# Altium footprint library ATK-2014-09-12.PcbLib: 439 footprints (part 8 of 28)
Each footprint in its own frame and in the unit in brackets; x right, y up, seen from the top. Pads: shape width x height; smd on the part's side, far side on the other; paste and mask are expansions set on the pad; w line width, h text height; cw(c..) or ccw(c..) is an arc to the next point about the centre after c.
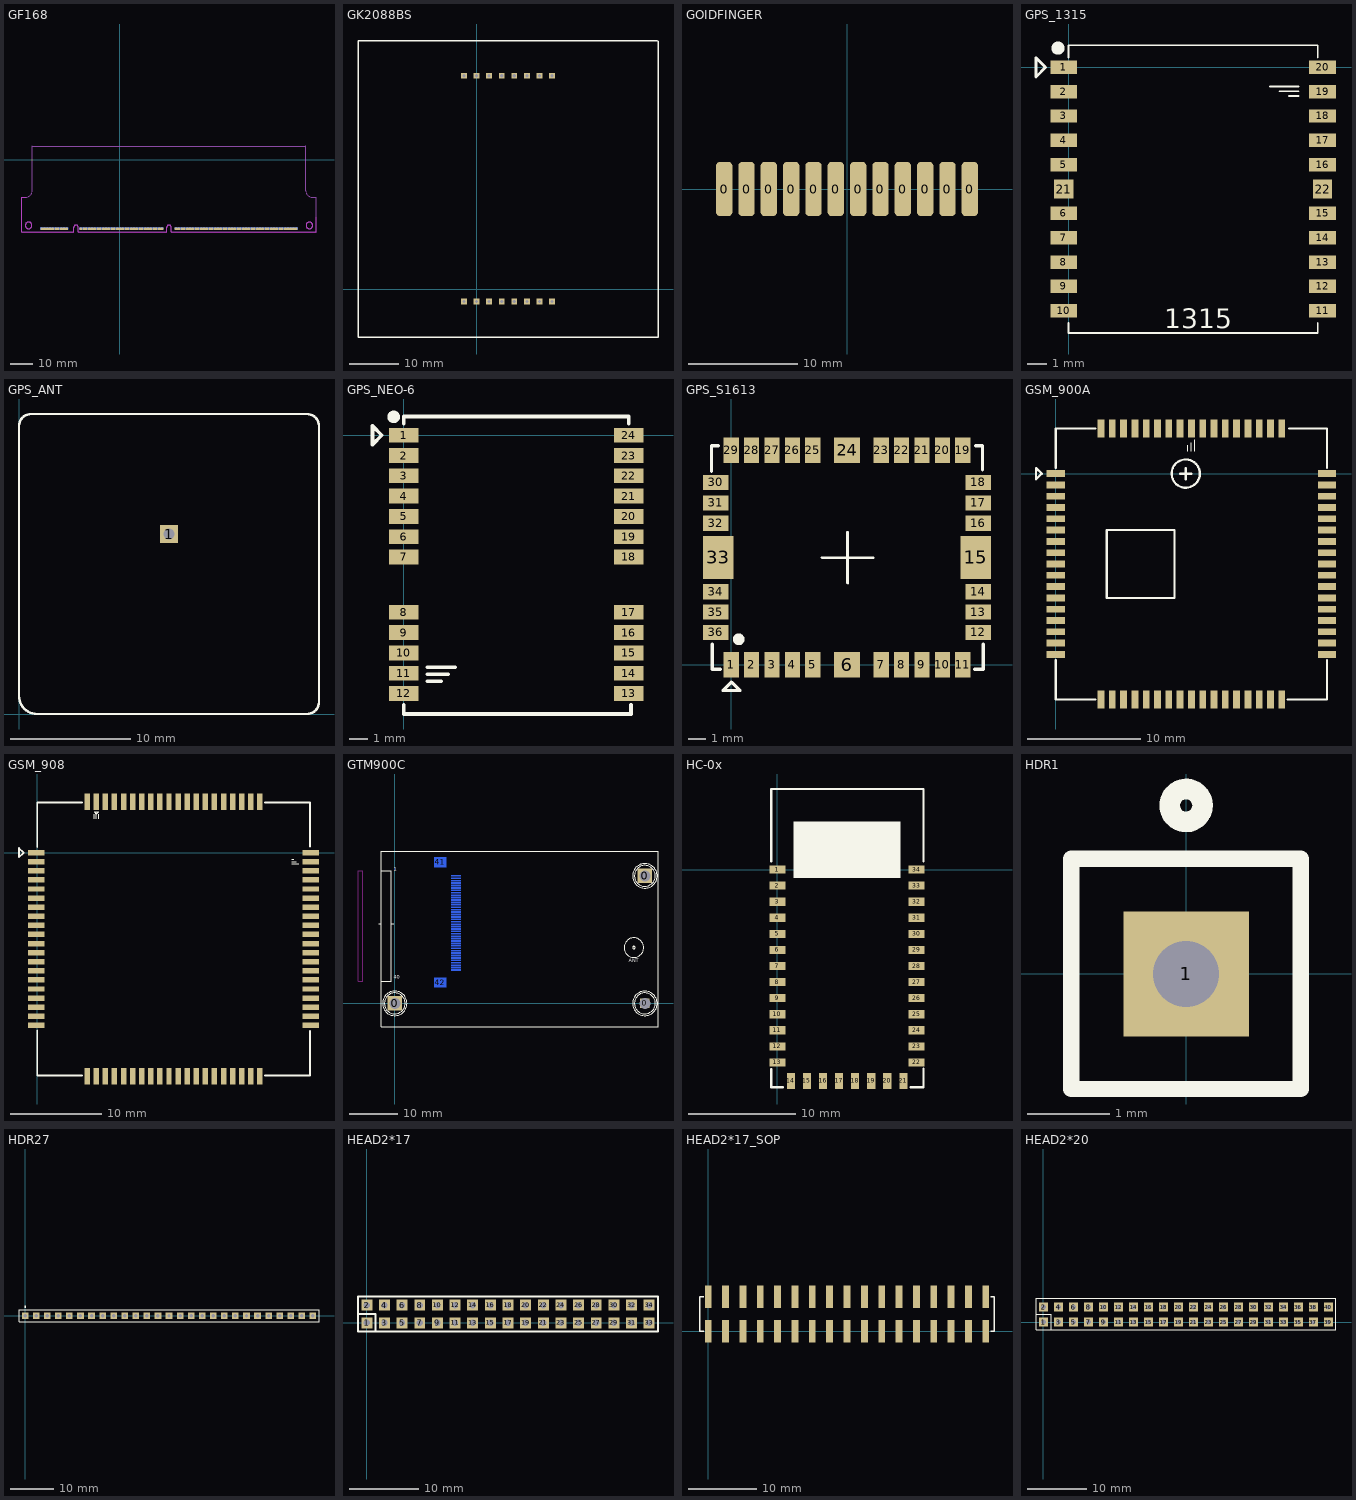
[diagram p7: the footprints below, top view; thin cyan lines are the x and y axes]

## GF168 [mm] "PORT"
height 50
pads (168):
  rect 1.2x1.2 smd: A1(-35.382,-31.242) A2(-34.112,-31.242) A3(-32.842,-31.242) A4(-31.572,-31.242) A5(-30.302,-31.242) A6(-29.032,-31.242) A7(-27.762,-31.242) A8(-26.492,-31.242) A9(-25.222,-31.242) A10(-23.952,-31.242) A11(-17.602,-31.242) A12(-16.332,-31.242) A13(-15.062,-31.242) A14(-13.792,-31.242) A15(-12.522,-31.242) A16(-11.252,-31.242) A17(-9.982,-31.242) A18(-8.712,-31.242) A19(-7.442,-31.242) A20(-6.172,-31.242) A21(-4.902,-31.242) A22(-3.632,-31.242) A23(-2.362,-31.242) A24(-1.092,-31.242) A25(0.178,-31.242) A26(1.448,-31.242) A27(2.718,-31.242) A28(3.988,-31.242) A29(5.258,-31.242) A30(6.528,-31.242) A31(7.798,-31.242) A32(9.068,-31.242) A33(10.338,-31.242) A34(11.608,-31.242) A35(12.878,-31.242) A36(14.148,-31.242) A37(15.418,-31.242) A38(16.688,-31.242) A39(17.958,-31.242) A40(19.228,-31.242) A41(25.578,-31.242) A42(26.848,-31.242) A43(28.118,-31.242) A44(29.388,-31.242) A45(30.658,-31.242) A46(31.928,-31.242) A47(33.198,-31.242) A48(34.468,-31.242) A49(35.738,-31.242) A50(37.008,-31.242) A51(38.278,-31.242) A52(39.548,-31.242) A53(40.818,-31.242) A54(42.088,-31.242) A55(43.358,-31.242) A56(44.628,-31.242) A57(45.898,-31.242) A58(47.168,-31.242) A59(48.438,-31.242) A60(49.708,-31.242) A61(50.978,-31.242) A62(52.248,-31.242) A63(53.518,-31.242) A64(54.788,-31.242) A65(56.058,-31.242) A66(57.328,-31.242) A67(58.598,-31.242) A68(59.868,-31.242) A69(61.138,-31.242) A70(62.408,-31.242) A71(63.678,-31.242) A72(64.948,-31.242) A73(66.218,-31.242) A74(67.488,-31.242) A75(68.758,-31.242) A76(70.028,-31.242) A77(71.298,-31.242) A78(72.568,-31.242) A79(73.838,-31.242) A80(75.108,-31.242) A81(76.378,-31.242) A82(77.648,-31.242) A83(78.918,-31.242) A84(80.188,-31.242)
  oct 1.2x1.2 smd far side: B1(-35.382,-31.242) B2(-34.112,-31.242) B3(-32.842,-31.242) B4(-31.572,-31.242) B5(-30.302,-31.242) B6(-29.032,-31.242) B7(-27.762,-31.242) B8(-26.492,-31.242) B9(-25.222,-31.242) B10(-23.952,-31.242) B11(-17.602,-31.242) B12(-16.332,-31.242) B13(-15.062,-31.242) B14(-13.792,-31.242) B15(-12.522,-31.242) B16(-11.252,-31.242) B17(-9.982,-31.242) B18(-8.712,-31.242) B19(-7.442,-31.242) B20(-6.172,-31.242) B21(-4.902,-31.242) B22(-3.632,-31.242) B23(-2.362,-31.242) B24(-1.092,-31.242) B25(0.178,-31.242) B26(1.448,-31.242) B27(2.718,-31.242) B28(3.988,-31.242) B29(5.258,-31.242) B30(6.528,-31.242) B31(7.798,-31.242) B32(9.068,-31.242) B33(10.338,-31.242) B34(11.608,-31.242) B35(12.878,-31.242) B36(14.148,-31.242) B37(15.418,-31.242) B38(16.688,-31.242) B39(17.958,-31.242) B40(19.228,-31.242) B41(25.578,-31.242) B42(26.848,-31.242) B43(28.118,-31.242) B44(29.388,-31.242) B45(30.658,-31.242) B46(31.928,-31.242) B47(33.198,-31.242) B48(34.468,-31.242) B49(35.738,-31.242) B50(37.008,-31.242) B51(38.278,-31.242) B52(39.548,-31.242) B53(40.818,-31.242) B54(42.088,-31.242) B55(43.358,-31.242) B56(44.628,-31.242) B57(45.898,-31.242) B58(47.168,-31.242) B59(48.438,-31.242) B60(49.708,-31.242) B61(50.978,-31.242) B62(52.248,-31.242) B63(53.518,-31.242) B64(54.788,-31.242) B65(56.058,-31.242) B66(57.328,-31.242) B67(58.598,-31.242) B68(59.868,-31.242) B69(61.138,-31.242) B70(62.408,-31.242) B71(63.678,-31.242) B72(64.948,-31.242) B73(66.218,-31.242) B74(67.488,-31.242) B75(68.758,-31.242) B76(70.028,-31.242) B77(71.298,-31.242) B78(72.568,-31.242) B79(73.838,-31.242) B80(75.108,-31.242) B81(76.378,-31.242) B82(77.648,-31.242) B83(78.918,-31.242) B84(80.188,-31.242)
Keep-Out Layer:
  lines w0.254: -44.348,-17.058 -44.323,-17.033
Keep-Out Layer:
  circle w0.254: c-41.272,-29.777 r1.5
  circle w0.254: c86.078,-29.777 r1.5
  lines w0.254: -44.348,-17.82 -44.348,-17.058 ; -44.347,-22.9 -44.347,-17.083 ; -44.347,-22.622 -44.347,-32.777 -23.952,-32.777 -20.777,-32.777 -20.777,-30.657 cw(c-19.777,-30.657) -18.777,-30.657 -18.777,-32.777 21.403,-32.777 21.403,-30.657 cw(c22.403,-30.657) 23.403,-30.657 23.403,-32.777 89.153,-32.777 89.153,-25.95 ; -44.323,-17.033 -42.672,-17.033
Mechanical 1:
  circle w0.254: c-41.272,-29.762 r1.5
  circle w0.254: c86.078,-29.762 r1.5
  lines w0.254: -44.348,-17.805 -44.348,-17.043 -44.323,-17.018 -42.672,-17.018 ; -44.347,-22.885 -44.347,-17.068 ; -44.347,-22.607 -44.347,-32.762 -23.952,-32.762 -20.777,-32.762 -20.777,-30.642 cw(c-19.777,-30.642) -18.777,-30.642 -18.777,-32.762 21.403,-32.762 21.403,-30.642 cw(c22.403,-30.642) 23.403,-30.642 23.403,-32.762 89.153,-32.762 89.153,-25.935 ; -42.649,-17.021 ccw(c-42.649,-14.021) -39.649,-14.021 -39.649,6.248 ; -39.597,6.238 84.403,6.238 ; 84.43,-14.021 84.43,6.248 ; 84.455,-14.021 ccw(c87.455,-14.021) 87.455,-17.021 ; 87.274,-17.018 89.103,-17.018 ; 89.153,-26.238 89.153,-16.991

## GK2088BS [mm] "GK2088BS"
height 8
pads (16):
  rect 1.2x1.2 hole 0.635: 1(-2.54,-2.54) 2(0,-2.54) 3(2.54,-2.54) 4(5.08,-2.54) 5(7.62,-2.54) 6(10.16,-2.54) 7(12.7,-2.54) 8(15.24,-2.54) 9(15.24,43.18) 10(12.7,43.18) 11(10.16,43.18) 12(7.62,43.18) 13(5.08,43.18) 14(2.54,43.18) 15(0,43.18) 16(-2.54,43.18)
Top Overlay:
  lines w0.254: -24.003,47.752 -24.003,50.292 -10.16,50.292 ; -24.003,48.895 -24.003,-6.35 -24.003,-9.779 -13.462,-9.779 ; -13.716,-9.779 19.812,-9.779 ; -11.303,50.292 28.829,50.292 36.576,50.292 36.703,50.165 36.703,45.847 ; 19.177,-9.779 33.274,-9.779 ; 32.385,-9.779 36.703,-9.779 36.703,-6.223 36.703,46.736

## GOIDFINGER [mm]
pads (12):
  rrect50% 1.5x5 all layers, no hole: 0(-11.278,0) 0(-9.227,0) 0(-7.177,0) 0(-5.126,0) 0(-3.076,0) 0(-1.025,0) 0(1.025,0) 0(3.076,0) 0(5.126,0) 0(7.177,0) 0(9.227,0) 0(11.278,0)

## GPS_1315 [mm]
pads (22):
  rect 1.4x0.7 smd: 1(-0.25,0) 2(-0.25,-1.27) 3(-0.25,-2.54) 4(-0.25,-3.81) 5(-0.25,-5.08) 6(-0.25,-7.62) 7(-0.25,-8.89) 8(-0.25,-10.16) 9(-0.25,-11.43) 10(-0.25,-12.7) 11(13.25,-12.7) 12(13.25,-11.43) 13(13.25,-10.16) 14(13.25,-8.89) 15(13.25,-7.62) 16(13.25,-5.08) 17(13.25,-3.81) 18(13.25,-2.54) 19(13.25,-1.27) 20(13.25,0)
  rect 1x1 smd: 21(-0.25,-6.35) 22(13.25,-6.35)
Top Overlay:
  circle w0.381: c-0.552,1 r0.152
  lines w0.1: 0,-13.85 13,-13.85 13,-13.35 ; 0,-13.8 0,-13.35 ; 0,0.508 0,1.15 13,1.15 13,0.508 ; 10.5,-1 12,-1 ; 11,-1.25 12,-1.25 ; 11.5,-1.5 12,-1.5
  lines w0.152: -1.7,-0.5 -1.2,0 -1.7,0.5 -1.7,-0.5
  text "1315" at 5,-13.6 h1

## GPS_ANT [mm] "25mm*25m"
height 4
pads (1):
  rect 1.5x1.5 hole 0.9: 1(12.5,15)
Top Overlay:
  lines w0.203: 0.9,25 24,25 cw(c24,24) 25,24 25,1 cw(c24,1) 24,0 1.5,0 cw(c1.5,1.5) 0,1.5 0,24 cw(c1,24) 1,25

## GPS_NEO-6 [mm] "NEO-6G/NEO-6M/NEO-6Q"
height 2
pads (24):
  rect 1.6x0.8 smd: 1(0,0) 2(0,-1.1) 3(0,-2.2) 4(0,-3.3) 5(0,-4.4) 6(0,-5.5) 7(0,-6.6) 8(0,-9.6) 9(0,-10.7) 10(0,-11.8) 11(0,-12.9) 12(0,-14) 13(12.2,-14) 14(12.2,-12.9) 15(12.2,-11.8) 16(12.2,-10.7) 17(12.2,-9.6) 18(12.2,-6.6) 19(12.2,-5.5) 20(12.2,-4.4) 21(12.2,-3.3) 22(12.2,-2.2) 23(12.2,-1.1) 24(12.2,0)
Top Overlay:
  circle w0.381: c-0.552,1 r0.152
  lines w0.152: -1.7,-0.5 -1.2,0 -1.7,0.5 -1.7,-0.5
  lines w0.203: 0,-14.605 0,-15.113 12.319,-15.113 12.319,-14.605 ; 0,0.635 0,1.016 12.192,1.016 12.192,0.635 ; 1.27,-13.335 2.032,-13.335 ; 1.27,-12.954 2.413,-12.954 ; 1.27,-12.573 2.794,-12.573 ; -1.2,0 -1.7,0.5 -1.7,-0.5 -1.2,0 ; -1.2,0 -1.2,0

## GPS_S1613 [mm] "S1613/C3631"
height 1
pads (36):
  rect 0.9x1.5 smd: 1(0,0) 2(1.2,0) 3(2.4,0) 4(3.6,0) 5(4.8,0) 7(8.8,0) 8(10,0) 9(11.2,0) 10(12.4,0) 11(13.6,0) 19(13.6,12.6) 20(12.4,12.6) 21(11.2,12.6) 22(10,12.6) 23(8.8,12.6) 25(4.8,12.6) 26(3.6,12.6) 27(2.4,12.6) 28(1.2,12.6) 29(0,12.6)
  rect 1.5x1.5 smd: 6(6.8,0) 24(6.8,12.6)
  rect 1.5x0.9 smd: 12(14.5,1.9) 13(14.5,3.1) 14(14.5,4.3) 16(14.5,8.3) 17(14.5,9.5) 18(14.5,10.7) 30(-0.9,10.7) 31(-0.9,9.5) 32(-0.9,8.3) 34(-0.9,4.3) 35(-0.9,3.1) 36(-0.9,1.9)
  rect 1.8x2.5 smd: 15(14.35,6.3) 33(-0.75,6.3)
Top Overlay:
  circle w0.381: c0.448,1.5 r0.152
  lines w0.127: 5.3,6.3 8.3,6.3 ; 5.349,6.287 8.349,6.287 ; 6.8,4.8 6.8,7.8 ; 6.849,4.787 6.849,7.787
  lines w0.152: -0.5,-1.5 0.5,-1.5 0,-1 -0.5,-1.5 ; -0.451,-1.513 0.549,-1.513 0.049,-1.013 -0.451,-1.513
  lines w0.203: -1.15,11.35 -1.15,12.85 ; -1.15,12.4 -1.15,12.85 ; -1.137,12.837 -1.15,12.85 ; -1.101,1.199 -1.101,-0.263 -0.637,-0.263 ; -0.75,12.85 -1.15,12.85 ; 14.3,-0.263 14.799,-0.263 14.799,1.199 ; 14.35,12.85 14.75,12.85 14.75,11.45

## GSM_900A [mm] "SIM900/SIM900A"
pads (68):
  rect 1.6x0.6 smd: 1(0,0) 2(0,-1) 3(0,-2) 4(0,-3) 5(0,-4) 6(0,-5) 7(0,-6) 8(0,-7) 9(0,-8) 10(0,-9) 11(0,-10) 12(0,-11) 13(0,-12) 14(0,-13) 15(0,-14) 16(0,-15) 17(0,-16) 35(24,-16) 36(24,-15) 37(24,-14) 38(24,-13) 39(24,-12) 40(24,-11) 41(24,-10) 42(24,-9) 43(24,-8) 44(24,-7) 45(24,-6) 46(24,-5) 47(24,-4) 48(24,-3) 49(24,-2) 50(24,-1) 51(24,0)
  rect 0.6x1.6 smd: 18(4,-20) 19(5,-20) 20(6,-20) 21(7,-20) 22(8,-20) 23(9,-20) 24(10,-20) 25(11,-20) 26(12,-20) 27(13,-20) 28(14,-20) 29(15,-20) 30(16,-20) 31(17,-20) 32(18,-20) 33(19,-20) 34(20,-20) 52(20,4) 53(19,4) 54(18,4) 55(17,4) 56(16,4) 57(15,4) 58(14,4) 59(13,4) 60(12,4) 61(11,4) 62(10,4) 63(9,4) 64(8,4) 65(7,4) 66(6,4) 67(5,4) 68(4,4)
Top Overlay:
  circle w0.203: c11.5,0 r1.25
  lines w0.1: 11.7,2 11.7,2.5 ; 12,2 12,2.75 ; 12.3,2 12.3,3 ; -1.75,-0.5 -1.75,0.5 -1.25,0 -1.75,-0.5
  lines w0.203: 0,-16.51 0,-20 3.495,-20 ; 0,0.508 0,4 3.493,4 ; 11,0 12,0 ; 11.5,-0.5 11.5,0.5 ; 20.508,-20 24,-20 24,-16.513 ; 20.637,4 24,4 24,0.511 ; -1.75,-0.5 -1.25,0 -1.75,0.5 -1.75,-0.5 ; 4.5,-11 4.5,-5 10.5,-5 10.5,-11 4.5,-11

## GSM_908 [mm]
pads (80):
  rect 1.8x0.6 smd: 1(-0.1,0) 2(-0.1,-1) 3(-0.1,-2) 4(-0.1,-3) 5(-0.1,-4) 6(-0.1,-5) 7(-0.1,-6) 8(-0.1,-7) 9(-0.1,-8) 10(-0.1,-9) 11(-0.1,-10) 12(-0.1,-11) 13(-0.1,-12) 14(-0.1,-13) 15(-0.1,-14) 16(-0.1,-15) 17(-0.1,-16) 18(-0.1,-17) 19(-0.1,-18) 20(-0.1,-19) 41(30.1,-19) 42(30.1,-18) 43(30.1,-17) 44(30.1,-16) 45(30.1,-15) 46(30.1,-14) 47(30.1,-13) 48(30.1,-12) 49(30.1,-11) 50(30.1,-10) 51(30.1,-9) 52(30.1,-8) 53(30.1,-7) 54(30.1,-6) 55(30.1,-5) 56(30.1,-4) 57(30.1,-3) 58(30.1,-2) 59(30.1,-1) 60(30.1,0)
  rect 0.6x1.8 smd: 21(5.5,-24.6) 22(6.5,-24.6) 23(7.5,-24.6) 24(8.5,-24.6) 25(9.5,-24.6) 26(10.5,-24.6) 27(11.5,-24.6) 28(12.5,-24.6) 29(13.5,-24.6) 30(14.5,-24.6) 31(15.5,-24.6) 32(16.5,-24.6) 33(17.5,-24.6) 34(18.5,-24.6) 35(19.5,-24.6) 36(20.5,-24.6) 37(21.5,-24.6) 38(22.5,-24.6) 39(23.5,-24.6) 40(24.5,-24.6) 61(24.5,5.6) 62(23.5,5.6) 63(22.5,5.6) 64(21.5,5.6) 65(20.5,5.6) 66(19.5,5.6) 67(18.5,5.6) 68(17.5,5.6) 69(16.5,5.6) 70(15.5,5.6) 71(14.5,5.6) 72(13.5,5.6) 73(12.5,5.6) 74(11.5,5.6) 75(10.5,5.6) 76(9.5,5.6) 77(8.5,5.6) 78(7.5,5.6) 79(6.5,5.6) 80(5.5,5.6)
Top Overlay:
  lines w0.1: 6.25,3.75 6.25,4.25 ; 6.5,3.75 6.5,4.5 ; 6.75,3.75 6.75,4.25 ; 28,-1.25 28.75,-1.25 ; 28,-1 28.5,-1 ; 28,-0.75 28.25,-0.75 ; -2,0.5 -2,-0.5 -1.5,0 -2,0.5 ; -2,0.5 -2,0.5 ; 6.5,4.5 6.75,4.5 6.5,4.25 6.25,4.5 6.5,4.5
  lines w0.203: 0,-19.558 0,-24.5 4.942,-24.5 ; 0,0.635 0,5.5 4.914,5.5 ; 25.03,-24.5 30,-24.5 30,-19.586 ; 25.058,5.5 30,5.5 30,0.663 ; -2,-0.5 -1.5,0 -2,0.5 -2,-0.5

## GTM900C [mil] "HW,GTM900C"
height 393.7
pads (45):
  rect 120x120 hole 90: 0(0,1) 0(2040,1041)
  rect 78.74x78.74 hole 90: 0(2040,1)
  rect 80x10 smd far side: 1(500,1041) 2(500,1021.32) 3(500,1001.63) 4(500,981.94) 5(500,962.26) 6(500,942.57) 7(500,922.89) 8(500,903.2) 9(500,883.52) 10(500,863.83) 11(500,844.15) 12(500,824.46) 13(500,804.78) 14(500,785.09) 15(500,765.41) 16(500,745.72) 17(500,726.04) 18(500,706.35) 19(500,686.67) 20(500,666.98) 21(500,647.3) 22(500,627.61) 23(500,607.93) 24(500,588.24) 25(500,568.56) 26(500,548.87) 27(500,529.19) 28(500,509.5) 29(500,489.82) 30(500,470.13) 31(500,450.45) 32(500,430.76) 33(500,411.08) 34(500,391.39) 35(500,371.71) 36(500,352.02) 37(500,332.34) 38(500,312.65) 39(500,292.97) 40(500,273.28)
  rect 100x80 smd far side: 41(370,1151) 42(370,171)
Top Overlay:
  circle w7: c2040,1041 r85
  circle w7: c2040,1 r85
  circle w7: c0,1 r85
  circle w7: c0,1 r100
  circle w7: c1950,456 r80
  circle w4: c1950,456 r10
  circle w7: c2040,1 r100
  circle w7: c2040,1041 r100
  lines w7: -130,651 -110,651 ; -110,181 -30,181 -30,201 -30,1081 -110,1081 ; -30,651 -10,651 ; -110,-189 -110,1241 2147,1241 2147,-189 -110,-189
  text "40" at -10,201 h30
  text "1" at -10,1081 h30
  text "ANT" at 1910,336 h30
Bottom Overlay:
  lines w7: 240,661 260,661 ; 315,171 240,171 240,1141 240,1151 315,1151 ; 425,171 500,171 500,261 ; 425,1151 500,1151 500,1066
  text "1" at 510,1073.28 h30
  text "40" at 520,193.28 h30
Keep-Out Layer:
  lines w10: -300,181 -260,181 -260,1081 -300,1081 -300,181

## HC-0x [mm] "HC03/HC04/HC05/HC06/HC07"
height 1.5
pads (34):
  rect 1.5x0.76 smd: 1(0,0) 2(0,-1.5) 3(0,-3) 4(0,-4.5) 5(0,-6) 6(0,-7.5) 7(0,-9) 8(0,-10.5) 9(0,-12) 10(0,-13.5) 11(0,-15) 12(0,-16.5) 13(0,-18) 22(13,-18) 23(13,-16.5) 24(13,-15) 25(13,-13.5) 26(13,-12) 27(13,-10.5) 28(13,-9) 29(13,-7.5) 30(13,-6) 31(13,-4.5) 32(13,-3) 33(13,-1.5) 34(13,0)
  rect 0.76x1.5 smd: 14(1.26,-19.73) 15(2.76,-19.73) 16(4.26,-19.73) 17(5.76,-19.73) 18(7.26,-19.73) 19(8.76,-19.73) 20(10.26,-19.73) 21(11.76,-19.73)
Top Overlay:
  region: 11.5,-0.8 11.5,4.5 1.5,4.5 1.5,-0.8
  lines w0.203: -0.57,-18.599 -0.57,-20.32 0.516,-20.32 -0.5,-20.32 ; -0.57,0.762 -0.57,7.52 13.63,7.52 13.63,0.762 ; 12.454,-20.32 13.63,-20.32 13.63,-18.566

## HDR1 [mil] "Connector; Header; 1 Position"
height 472.44
pads (1):
  rect 60x60 hole 31.5: 1(0,0)
Top Overlay:
  circle w9.84: c0,80.71 r7.87
  lines w7.87: -55.12,-55.12 -55.12,55.12 55,55.12 55,-55.12 -55.12,-55.12

## HDR27 [mil] "Connector; Header; 27 Position"
height 472.44
pads (27):
  rect 60x60 hole 31.5: 1(0,0) 2(100,0) 3(200,0) 4(300,0) 5(400,0) 6(500,0) 7(600,0) 8(700,0) 9(800,0) 10(900,0) 11(1000,0) 12(1100,0) 13(1200,0) 14(1300,0) 15(1400,0) 16(1500,0) 17(1600,0) 18(1700,0) 19(1800,0) 20(1900,0) 21(2000,0) 22(2100,0) 23(2200,0) 24(2300,0) 25(2400,0) 26(2500,0) 27(2600,0)
Top Overlay:
  circle w9.84: c0,80.71 r4.92
  lines w7.87: -55.12,-55.12 2655,-55.12 2655,55.12 -55.12,55.12 -55.12,-55.12

## HEAD2*17 [mil] "PIN:2.54mm;HEAD;"
height 393.7
pads (34):
  rect 62x62 hole 35: 1(0.42,0.42) 2(0.42,100.42) 3(100.42,0.42) 4(100.42,100.42) 5(200.43,0.42) 6(200.43,100.42) 7(300.43,0.42) 8(300.43,100.42) 9(400.43,0.42) 10(400.43,100.42) 11(500.43,0.42) 12(500.43,100.42) 13(600.42,0.42) 14(600.42,100.42) 15(700.42,0.42) 16(700.42,100.42) 17(800.42,0.42) 18(800.42,100.42) 19(900.42,0.42) 20(900.42,100.42) 21(1000.42,0.42) 22(1000.42,100.42) 23(1100.42,0.42) 24(1100.42,100.42) 25(1200.42,0.42) 26(1200.42,100.42) 27(1300.42,0.42) 28(1300.42,100.42) 29(1400.42,0.42) 30(1400.42,100.42) 31(1500.42,0.42) 32(1500.42,100.42) 33(1600.42,0.42) 34(1600.42,100.42)
Top Overlay:
  lines w12: -49.58,50.42 50.42,50.42 50.42,-49.58 ; -49.58,-49.58 -49.58,150.43 1650.42,150.43 1650.42,-49.58 -49.58,-49.58

## HEAD2*17_SOP [mm] "PIN:2.54mm;HEAD;"
height 10
pads (34):
  rect 1x3.3 smd: 1(0,0) 2(0,5.08) 3(2.54,0) 4(2.54,5.08) 5(5.08,0) 6(5.08,5.08) 7(7.62,0) 8(7.62,5.08) 9(10.16,0) 10(10.16,5.08) 11(12.7,0) 12(12.7,5.08) 13(15.24,0) 14(15.24,5.08) 15(17.78,0) 16(17.78,5.08) 17(20.32,0) 18(20.32,5.08) 19(22.86,0) 20(22.86,5.08) 21(25.4,0) 22(25.4,5.08) 23(27.94,0) 24(27.94,5.08) 25(30.48,0) 26(30.48,5.08) 27(33.02,0) 28(33.02,5.08) 29(35.56,0) 30(35.56,5.08) 31(38.1,0) 32(38.1,5.08) 33(40.64,0) 34(40.64,5.08)
Top Overlay:
  lines w0.203: -0.635,0 -1.27,0 -1.27,5.08 -0.635,5.08 ; 41.402,0 41.91,0 41.91,5.08 41.402,5.08

## HEAD2*20 [mil] "PIN:2.54mm;HEAD;"
height 393.7
pads (40):
  rect 62x62 hole 35: 1(0.42,0.42) 2(0.42,100.42) 3(100.42,0.42) 4(100.42,100.42) 5(200.43,0.42) 6(200.43,100.42) 7(300.43,0.42) 8(300.43,100.42) 9(400.43,0.42) 10(400.43,100.42) 11(500.43,0.42) 12(500.43,100.42) 13(600.42,0.42) 14(600.42,100.42) 15(700.42,0.42) 16(700.42,100.42) 17(800.42,0.42) 18(800.42,100.42) 19(900.42,0.42) 20(900.42,100.42) 21(1000.42,0.42) 22(1000.42,100.42) 23(1100.42,0.42) 24(1100.42,100.42) 25(1200.42,0.42) 26(1200.42,100.42) 27(1300.42,0.42) 28(1300.42,100.42) 29(1400.42,0.42) 30(1400.42,100.42) 31(1500.42,0.42) 32(1500.42,100.42) 33(1600.42,0.42) 34(1600.42,100.42)
  rect 60x60 hole 30: 35(1700,0) 36(1700,100) 37(1800,0) 38(1800,100) 39(1900,0) 40(1900,100)
Top Overlay:
  lines w7: -49.58,51.18 51.18,51.18 51.18,-49.58 ; -49.58,-49.58 1650.42,-49.58 1950,-49.58 1950,157.48 -47.97,157.48 -49.58,155.87 -49.58,150.43 -49.58,-49.58